# EAGLE library part FT4232HQ-REEL (library My_Library_SDR)
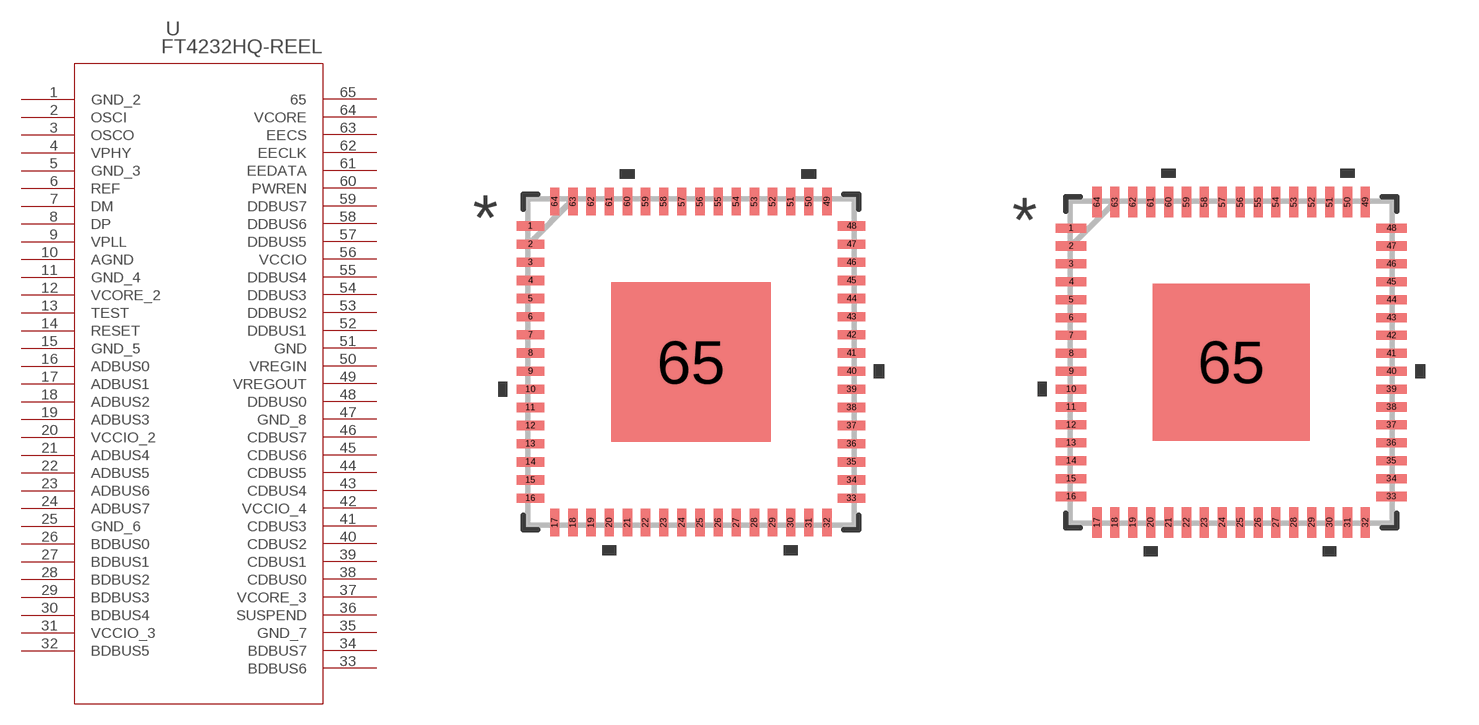
[diagram p2: symbol with the pads of QFN-64_FT4232HQ-REEL_FTD; footprints QFN-64_FT4232HQ-REEL_FTD, QFN-64_FT4232HQ-REEL_FTD-M]

Designator prefix U

## FT4232HQ-REEL (COPYRIGHT: Copyright (C) 2024 Ultra Librarian. All rights reserved.; MANUFACTURER_PART_NUMBER: FT4232HQ-REEL; MFR_NAME: FTDI, Future Technology Devices International Ltd)  [QFN-64_FT4232HQ-REEL_FTD]
1  GND_2  pas
2  OSCI  pas
3  OSCO  pas
4  VPHY  pas
5  GND_3  pas
6  REF  pas
7  DM  pas
8  DP  pas
9  VPLL  pas
10  AGND  pas
11  GND_4  pas
12  VCORE_2  pas
13  TEST  pas
14  RESET  pas
15  GND_5  pas
16  ADBUS0  pas
17  ADBUS1  pas
18  ADBUS2  pas
19  ADBUS3  pas
20  VCCIO_2  pas
21  ADBUS4  pas
22  ADBUS5  pas
23  ADBUS6  pas
24  ADBUS7  pas
25  GND_6  pas
26  BDBUS0  pas
27  BDBUS1  pas
28  BDBUS2  pas
29  BDBUS3  pas
30  BDBUS4  pas
31  VCCIO_3  pas
32  BDBUS5  pas
33  BDBUS6  pas
34  BDBUS7  pas
35  GND_7  pas
36  SUSPEND  pas
37  VCORE_3  pas
38  CDBUS0  pas
39  CDBUS1  pas
40  CDBUS2  pas
41  CDBUS3  pas
42  VCCIO_4  pas
43  CDBUS4  pas
44  CDBUS5  pas
45  CDBUS6  pas
46  CDBUS7  pas
47  GND_8  pas
48  DDBUS0  pas
49  VREGOUT  pas
50  VREGIN  pas
51  GND  pas
52  DDBUS1  pas
53  DDBUS2  pas
54  DDBUS3  pas
55  DDBUS4  pas
56  VCCIO  pas
57  DDBUS5  pas
58  DDBUS6  pas
59  DDBUS7  pas
60  PWREN  pas
61  EEDATA  pas
62  EECLK  pas
63  EECS  pas
64  VCORE  pas
65  65  pas

## FT4232HQ-REELQFN-64_FT4232HQ-REEL_FTD-M (COPYRIGHT: Copyright (C) 2024 Ultra Librarian. All rights reserved.; MANUFACTURER_PART_NUMBER: FT4232HQ-REEL; MFR_NAME: FTDI, Future Technology Devices International Ltd)  [QFN-64_FT4232HQ-REEL_FTD-M]
Pads as for QFN-64_FT4232HQ-REEL_FTD

## FT4232HQ-REELQFN-64_FT4232HQ-REEL_FTD-L (COPYRIGHT: Copyright (C) 2024 Ultra Librarian. All rights reserved.; MANUFACTURER_PART_NUMBER: FT4232HQ-REEL; MFR_NAME: FTDI, Future Technology Devices International Ltd)  [QFN-64_FT4232HQ-REEL_FTD-L]
Pads as for QFN-64_FT4232HQ-REEL_FTD

## Footprint QFN-64_FT4232HQ-REEL_FTD (pad centres in mm)
smd 0.755 x 0.254: 1 -4.423,3.75; 2 -4.423,3.25; 3 -4.423,2.75; 4 -4.423,2.25; 5 -4.423,1.75; 6 -4.423,1.25; 7 -4.423,0.75; 8 -4.423,0.25; 9 -4.423,-0.25; 10 -4.423,-0.75; 11 -4.423,-1.25; 12 -4.423,-1.75; 13 -4.423,-2.25; 14 -4.423,-2.75; 15 -4.423,-3.25; 16 -4.423,-3.75; 33 4.423,-3.75; 34 4.423,-3.25; 35 4.423,-2.75; 36 4.423,-2.25; 37 4.423,-1.75; 38 4.423,-1.25; 39 4.423,-0.75; 40 4.423,-0.25; 41 4.423,0.25; 42 4.423,0.75; 43 4.423,1.25; 44 4.423,1.75; 45 4.423,2.25; 46 4.423,2.75; 47 4.423,3.25; 48 4.423,3.75
smd 0.254 x 0.755: 17 -3.75,-4.423; 18 -3.25,-4.423; 19 -2.75,-4.423; 20 -2.25,-4.423; 21 -1.75,-4.423; 22 -1.25,-4.423; 23 -0.75,-4.423; 24 -0.25,-4.423; 25 0.25,-4.423; 26 0.75,-4.423; 27 1.25,-4.423; 28 1.75,-4.423; 29 2.25,-4.423; 30 2.75,-4.423; 31 3.25,-4.423; 32 3.75,-4.423; 49 3.75,4.423; 50 3.25,4.423; 51 2.75,4.423; 52 2.25,4.423; 53 1.75,4.423; 54 1.25,4.423; 55 0.75,4.423; 56 0.25,4.423; 57 -0.25,4.423; 58 -0.75,4.423; 59 -1.25,4.423; 60 -1.75,4.423; 61 -2.25,4.423; 62 -2.75,4.423; 63 -3.25,4.423; 64 -3.75,4.423
smd 4.394 x 4.394: 65 0,0

## Footprint QFN-64_FT4232HQ-REEL_FTD-M (pad centres in mm)
smd 0.856 x 0.254: 1 -4.474,3.75; 2 -4.474,3.25; 3 -4.474,2.75; 4 -4.474,2.25; 5 -4.474,1.75; 6 -4.474,1.25; 7 -4.474,0.75; 8 -4.474,0.25; 9 -4.474,-0.25; 10 -4.474,-0.75; 11 -4.474,-1.25; 12 -4.474,-1.75; 13 -4.474,-2.25; 14 -4.474,-2.75; 15 -4.474,-3.25; 16 -4.474,-3.75; 33 4.474,-3.75; 34 4.474,-3.25; 35 4.474,-2.75; 36 4.474,-2.25; 37 4.474,-1.75; 38 4.474,-1.25; 39 4.474,-0.75; 40 4.474,-0.25; 41 4.474,0.25; 42 4.474,0.75; 43 4.474,1.25; 44 4.474,1.75; 45 4.474,2.25; 46 4.474,2.75; 47 4.474,3.25; 48 4.474,3.75
smd 0.254 x 0.856: 17 -3.75,-4.474; 18 -3.25,-4.474; 19 -2.75,-4.474; 20 -2.25,-4.474; 21 -1.75,-4.474; 22 -1.25,-4.474; 23 -0.75,-4.474; 24 -0.25,-4.474; 25 0.25,-4.474; 26 0.75,-4.474; 27 1.25,-4.474; 28 1.75,-4.474; 29 2.25,-4.474; 30 2.75,-4.474; 31 3.25,-4.474; 32 3.75,-4.474; 49 3.75,4.474; 50 3.25,4.474; 51 2.75,4.474; 52 2.25,4.474; 53 1.75,4.474; 54 1.25,4.474; 55 0.75,4.474; 56 0.25,4.474; 57 -0.25,4.474; 58 -0.75,4.474; 59 -1.25,4.474; 60 -1.75,4.474; 61 -2.25,4.474; 62 -2.75,4.474; 63 -3.25,4.474; 64 -3.75,4.474
smd 4.394 x 4.394: 65 0,0

## Footprint QFN-64_FT4232HQ-REEL_FTD-L (pad centres in mm)
smd 0.653 x 0.254: 1 -4.372,3.75; 2 -4.372,3.25; 3 -4.372,2.75; 4 -4.372,2.25; 5 -4.372,1.75; 6 -4.372,1.25; 7 -4.372,0.75; 8 -4.372,0.25; 9 -4.372,-0.25; 10 -4.372,-0.75; 11 -4.372,-1.25; 12 -4.372,-1.75; 13 -4.372,-2.25; 14 -4.372,-2.75; 15 -4.372,-3.25; 16 -4.372,-3.75; 33 4.372,-3.75; 34 4.372,-3.25; 35 4.372,-2.75; 36 4.372,-2.25; 37 4.372,-1.75; 38 4.372,-1.25; 39 4.372,-0.75; 40 4.372,-0.25; 41 4.372,0.25; 42 4.372,0.75; 43 4.372,1.25; 44 4.372,1.75; 45 4.372,2.25; 46 4.372,2.75; 47 4.372,3.25; 48 4.372,3.75
smd 0.254 x 0.653: 17 -3.75,-4.372; 18 -3.25,-4.372; 19 -2.75,-4.372; 20 -2.25,-4.372; 21 -1.75,-4.372; 22 -1.25,-4.372; 23 -0.75,-4.372; 24 -0.25,-4.372; 25 0.25,-4.372; 26 0.75,-4.372; 27 1.25,-4.372; 28 1.75,-4.372; 29 2.25,-4.372; 30 2.75,-4.372; 31 3.25,-4.372; 32 3.75,-4.372; 49 3.75,4.372; 50 3.25,4.372; 51 2.75,4.372; 52 2.25,4.372; 53 1.75,4.372; 54 1.25,4.372; 55 0.75,4.372; 56 0.25,4.372; 57 -0.25,4.372; 58 -0.75,4.372; 59 -1.25,4.372; 60 -1.75,4.372; 61 -2.25,4.372; 62 -2.75,4.372; 63 -3.25,4.372; 64 -3.75,4.372
smd 4.394 x 4.394: 65 0,0